# EAGLE library part B2430UNI (library battery1)
LI BATTERY
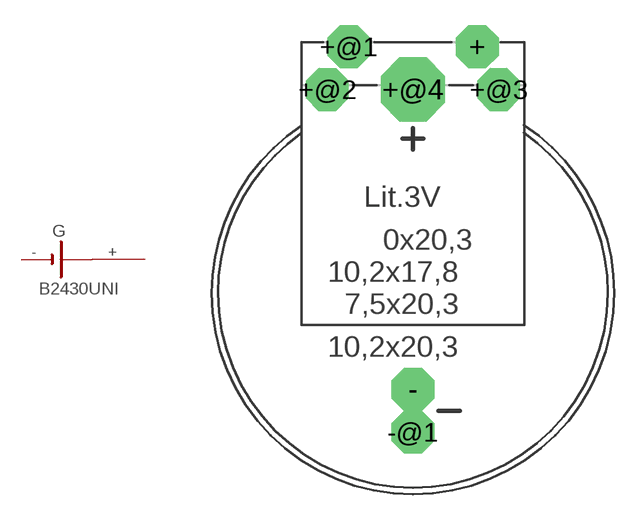
[diagram p0: symbol with the pads of B2430UNI; footprint B2430UNI]

Designator prefix G

## B2430UNI  [B2430UNI]
+  +  pas
+@1  +  pas
+@2  +  pas
+@3  +  pas
+@4  +  pas
-  -  pas
-@1  -  pas

## Footprint B2430UNI (pad centres in mm)
LI BATTERY with different Grids
drill 1.118 pad 2.54 octagon: + 3.81,14.605; +@1 -3.81,14.605; +@2 -5.08,12.065; +@3 5.08,12.065; - 0,-5.715; -@1 0,-8.255
drill 1.803 pad 3.81 octagon: +@4 0,12.065